# EAGLE library part TPA6112A2 (library Misc ICs)
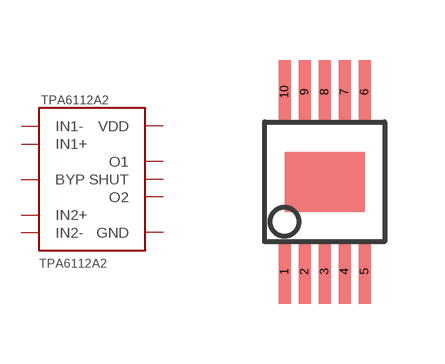
[diagram p4: symbol with the pads of MSOP-10; footprint MSOP-10]

Designator prefix TPA6112A2

## TPA6112A2  [MSOP-10]
1  O1
2  IN1-
3  IN1+
4  BYP
5  GND
6  SHUT
7  IN2+
8  IN2-
9  O2
10  VDD

## Footprint MSOP-10 (pad centres in mm)
10MSOP PowerPAD DGQ (S-PDSO-G10), 0.5mm, 10 pins
smd 0.3 x 1.6: 1 -1,-2.25; 2 -0.5,-2.25; 3 0,-2.25; 4 0.5,-2.25; 5 1,-2.25; 6 1,2.25; 7 0.5,2.25; 8 0,2.25; 9 -0.5,2.25; 10 -1,2.25